# EAGLE library part 61303221121 (library Eagle_BOARD-TO-BOARD_CONNECTORS (rev18b))
WR-PHD 2.54mm Dual Pin Header, 32 Pins =>Code : Con_BTB_PHD_2.54_2_61303221121 <http://katalog.we-online.de/media/images/eican/Con_BTB_PHD_2.54_2_6130xx21121_pf2.jpg> Details see: http://katalog.we-online.de/en/em/613_0xx_211_21 Created 2014-05-29, Karrer Zheng 2014 (C) Würth Elektronik
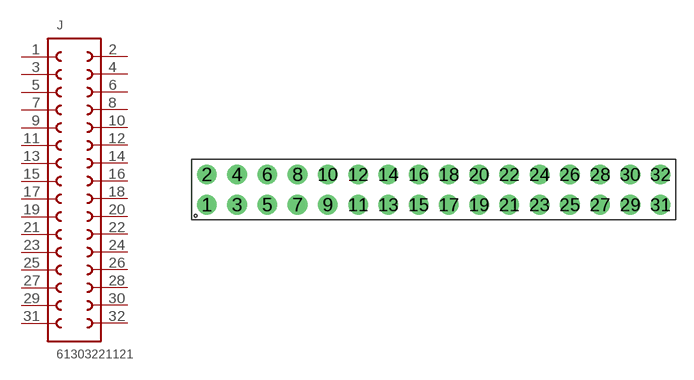
[diagram p31: symbol with the pads of 61303221121; footprint 61303221121]

Designator prefix J

## 61303221121  [61303221121]
1  1  pas
2  32  pas
3  2  pas
4  31  pas
5  3  pas
6  30  pas
7  4  pas
8  29  pas
9  5  pas
10  28  pas
11  6  pas
12  27  pas
13  7  pas
14  26  pas
15  8  pas
16  25  pas
17  9  pas
18  24  pas
19  10  pas
20  23  pas
21  11  pas
22  22  pas
23  12  pas
24  21  pas
25  13  pas
26  20  pas
27  14  pas
28  19  pas
29  15  pas
30  18  pas
31  16  pas
32  17  pas

## Footprint 61303221121 (pad centres in mm)
WR-PHD 2.54mm Dual Pin Header, 32 Pins
drill 1.1: 1 -19.05,-1.27; 2 -19.05,1.27; 3 -16.51,-1.27; 4 -16.51,1.27; 5 -13.97,-1.27; 6 -13.97,1.27; 7 -11.43,-1.27; 8 -11.43,1.27; 9 -8.89,-1.27; 10 -8.89,1.27; 11 -6.35,-1.27; 12 -6.35,1.27; 13 -3.81,-1.27; 14 -3.81,1.27; 15 -1.27,-1.27; 16 -1.27,1.27; 17 1.27,-1.27; 18 1.27,1.27; 19 3.81,-1.27; 20 3.81,1.27; 21 6.35,-1.27; 22 6.35,1.27; 23 8.89,-1.27; 24 8.89,1.27; 25 11.43,-1.27; 26 11.43,1.27; 27 13.97,-1.27; 28 13.97,1.27; 29 16.51,-1.27; 30 16.51,1.27; 31 19.05,-1.27; 32 19.05,1.27